# Altium integrated library X Band Filter and LNA.IntLib: 11 symbols
Pins are listed as number, name and electrical type; pins without a type are passive.

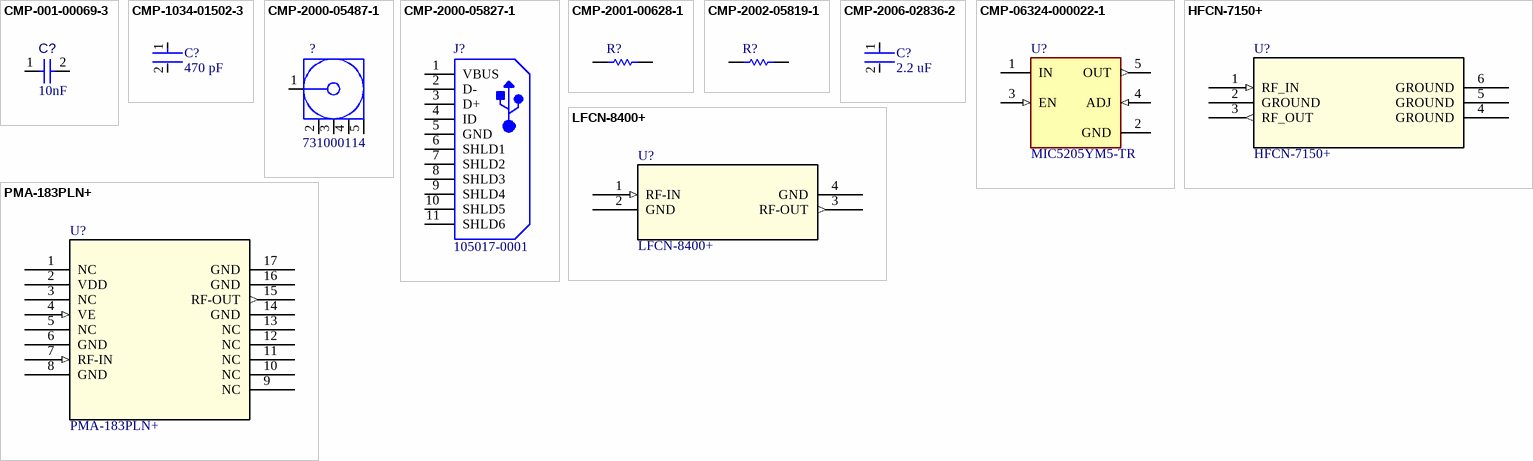
[diagram p0: symbols CMP-001-00069-3 to PMA-183PLN+]

## CMP-001-00069-3
designator C?, comment value 10nF  (hidden comment: Capacitor 10nF +/-20% 50V 0402)
Chip Capacitor, 10nF +/-20%, 50V, 0402, Thickness 0.6 mm; Manufacturer: Vishay Vitramon; Manufacturer Part Number: VJ0402Y103KXACW1BC; Manufacturer: KEMET; Manufacturer Part Number: C0402C103K5RAC-TU; Manufacturer: Vishay Semiconductors; Manufacturer Part Number: VJ0402Y103KXAAC; Manufacturer: Vishay; Manufacturer Part Number: VJ0402Y103KNAAO; Manufacturer Part Number: C0402C103K5RAC; Manufacturer: Yageo; Manufacturer Part Number: CC0402KRX7R9BB103; Manufacturer: TDK; Manufacturer Part Number: C1005X6S1H103K; Manufacturer: Murata; Manufacturer Part Number: GRM155R71H103KA88D; Manufacturer Part Number: C1005X7R1H103K; Tolerance: 5%; Max Operating Temperature: 85°C; Pins: 2; Case/Package: 0402; Voltage Rating: 50V; Min Operating Temperature: -55°C; Mounting Technology: SMT; Component Type: Capacitors
footprint CAPC0402(1005)60_L (Chip Capacitor, Body 1.0x0.5mm, Height 0.6mm, IPC High Density)
simulation model C_Capacitor_Default
pins: 1, 2

## CMP-1034-01502-3
designator C?, comment 470 pF
General Purpose Ceramic Capacitor, 0402, 470pF, 10%, X7R, 15%, 50V; Manufacturer: KEMET; Manufacturer Part Number: C0402C471K5RACTU; Manufacturer: Kyocera AVX; Manufacturer Part Number: 04025C471KAT4A; Manufacturer Part Number: 04025C471KAT2A; Manufacturer: Vishay; Manufacturer Part Number: VJ0402Y471KXACW1BC; Manufacturer: Vishay Vitramon; Manufacturer Part Number: VJ0402Y471KXAPW1BC; Manufacturer: Yageo; Manufacturer Part Number: CC0402KRX7R9BB471; Manufacturer: TDK; Manufacturer Part Number: C1005X7R1H471K; Manufacturer Part Number: C0402C471K5RAC; Manufacturer: Murata; Manufacturer Part Number: GRM155R71H471KA01D; Manufacturer Part Number: VJ0402Y471KXAAC; Manufacturer Part Number: C0402C471K5RACTM; Manufacturer Part Number: C1005X5R1H471K; Manufacturer Part Number: C0402C471K5GAC; Manufacturer Part Number: 04025A471KAT2A; Manufacturer Part Number: VJ0402Y471KXAAP; Manufacturer Part Number: GRM15XR71H471KA86D; Manufacturer Part Number: C0402C471K5GACTU; Series: -; Height: 0.5mm; Termination: SMD/SMT; Packaging: Tape and Reel; Tolerance: 10%; REACH SVHC: No SVHC; Package Quantity: 10000; Case Code (Imperial): 0402; Voltage: 50V; Depth: 0.5mm; Case Code (Metric): 1005; Voltage Rating: 50V; Radiation Hardening: No; Construction: Flat; Mount: Surface Mount; Dielectric: X7R; Min Operating Temperature: -55°C; Width: 0.5mm; Number of Pins: 2; Case/Package: 0402; RoHS Compliant: Yes; Thickness: 0.022inch; Lead Free: Lead Free; Voltage Rating (DC): 50V; Max Operating Temperature: 125°C; Capacitance: 470pF; Length: 1mm; Contact Plating: Tin; Value: 470pF
footprint FP-0402-L_1_0_1-W_0_5_0_1-IPC_A
footprint FP-0402-L_1_0_1-W_0_5_0_1-IPC_B
footprint FP-0402-L_1_0_1-W_0_5_0_1-IPC_C
footprint FP-0402-L_1_0_1-W_0_5_0_1-MFG
simulation model C_Capacitor_Default
pins: 1, 2

## CMP-2000-05487-1
designator , comment ?  731000114
SMA Right-Angle PCB Jack Receptacle, Brass Body, Gold Plated, 50 Ohm, 5-Pin THD, RoHS, Tray; Manufacturer: Molex; Manufacturer Part Number: 73100-0114; Datasheet Version: 09/2016; Package Description: 5-Pin Through Hole Device, Body 14.8 x 6.35 mm, Pitch 2.54 mm; Datasheet URL: http://www.molex.com/webdocs/datasheets/pdf/en-us/0731000114_RF_COAX_CONNECTORS.pdf; Manufacturer URL: http://www.molex.com/; Package Reference: 731000114; Mounting Technology: ThroughHole; Package URL: http://www.molex.com/pdm_docs/sd/731000114_sd.pdf
footprint MOLX-731000114_V (Connector, 5-Leads, Body 14.8x6.35mm, Pitch 2.54mm)
pins: 1, 2, 3, 4, 5

## CMP-2000-05827-1
designator J?, comment 105017-0001
Micro-USB B Receptacle, Right Angle, Bottom Mount, Surface Mount, with Solder Tabs, -30 to 85 degC, 5-Pin USB, RoHS, Tape and Reel; Manufacturer: Molex; Featured Product: Micro-USBConnectorsUSBConnectors; Other Names: WM1399DKR; Package Version: Rev. F, 12/2012; Number of Contacts: 5; Connector Type: USB-microB; Catalog Drawings: 1050170001; 3D Model: 105017-0001.stp; Mating Products: WM17145-ND-CABLEMICROUSBBTOSTDA1.0MWM17147-ND-CABLEMICROUSBBTOSTDA2.0MWM17146-ND-CABLEMICROUSBBTOSTDA1.5M; PCN Assembly/Origin: ResinSupplier21/Oct/2015; Voltage - Max: 30V; Online Catalog: Molex-MicroUSB; Manufacturer URL: http://www.molex.com/; Package Description: 5-Leads USB, Micro B, Body 7.5 x 5 mm, Pitch 0.65 mm; Datasheet URL: http://www.molex.com/elqNow/elqRedir.htm?ref=http://www.molex.com/webdocs/datasheets/pdf/en-us/1050170001_IO_CONNECTORS.pdf; Ingress Protection: -; Datasheet Version: 03/2016; Mounting Type: BoardCutout,SurfaceMount,RightAngle; Circuits: 5; Standard Package: 1; Package Reference: MICRO-B; Package URL: http://www.molex.com/pdm_docs/sd/1050170001_sd.pdf; Category: Connectors,Interconnects; Series: -; RoHS Information: 1050170001CertofCompliance; Features: Shielded,SolderRetention; Family: USB,DVI,HDMIConnectors; Specifications: -; Gender: Receptacle; Packaging: Digi-Reel®; Mounting Technology: SurfaceMount; Manufacturer Part Number: 1050170001
footprint USB-MICRO-B_V (USB, MICRO B, Body 7.491x4.695 mm, Pitch 0.65 mm)
pins: 1 VBUS, 2 D-, 3 D+, 4 ID, 5 GND, 6 SHLD1, 7 SHLD2, 8 SHLD3, 9 SHLD4, 10 SHLD5, 11 SHLD6

## CMP-2001-00628-1
designator R?
Manufacturer: Panasonic; Part Number: ERA6AEB331V; Manufacturer Part Number: ERA-6AEB331V
footprint RESC2013X60X40LL20T25 (Chip Resistor, 2-Leads, Body 2.00x1.25mm, IPC High Density)
footprint RESC2013X60X40ML20T25 (Chip Resistor, 2-Leads, Body 2.00x1.25mm, IPC Low Density)
footprint RESC2013X60X40NL20T25 (Chip Resistor, 2-Leads, Body 2.00x1.25mm, IPC Medium Density)
pins: 1, 2
1 alternate drawing of the same symbol

## CMP-2002-05819-1
designator R?
Part Number: ERA-2AEB621X; Manufacturer: Panasonic; Manufacturer Part Number: ERA-2AEB621X
footprint RESC1005X40X25ML10T10 (Chip Resistor, 2-Leads, Body 1.00x0.50mm, IPC Low Density)
footprint RESC1005X40X25LL10T10 (Chip Resistor, 2-Leads, Body 1.00x0.50mm, IPC High Density)
footprint RESC1005X40X25NL10T10 (Chip Resistor, 2-Leads, Body 1.00x0.50mm, IPC Medium Density)
pins: 1, 2
1 alternate drawing of the same symbol

## CMP-2006-02836-2
designator C?, comment 2.2 uF
Chip Multilayer Ceramic Capacitors for General Purpose, 0603, 2.2uF, X7R, 15%, 10%, 10V; Manufacturer: Murata; Manufacturer Part Number: GRM188R71A225KE15D; Case Code (Metric): 1608; Height: 0.8mm; Packaging: Cut Tape; Voltage: 10V; Lead Free: Lead Free; Min Operating Temperature: -55°C; Voltage Rating (DC): 10V; Max Operating Temperature: 125°C; Voltage Rating: 10V; Dielectric: X7R; Depth: 0.8mm; Case Code (Imperial): 0603; Termination: SMD/SMT; Case/Package: 0603; Number of Pins: 2; REACH SVHC: No SVHC; Mount: Surface Mount; Width: 0.031inch; Material: Ceramic; Capacitance: 2.2uF; Package Quantity: 1; Weight: 7.1E-05oz; Length: 1.6mm; Thickness: 0.035inch; Tolerance: 10%; Value: 2.2uF
footprint FP-GRM188-0_1-e0_2_0_5-MFG
footprint FP-GRM188-0_1-e0_2_0_5-IPC_B
footprint FP-GRM188-0_1-e0_2_0_5-IPC_A
footprint FP-GRM188-0_1-e0_2_0_5-IPC_C
simulation model C_Capacitor_Default
pins: 1, 2

## CMP-06324-000022-1
designator U?, comment MIC5205YM5-TR
IC REG LIN POS ADJ 150MA SOT23-5; Manufacturer: Microchip; Output Type: AdjustableProgrammable; Number Of Outputs: 1; Max Supply Voltage: 16V; Min Supply Voltage: 2.5V; Nominal Supply Current: 80-1300uA; Dropout Voltage: 165mV; Standoff Height: 0mm; Accuracy Percentage: 1%; Max Junction Temp: +125°C; ComponentLink2URL: http://ww1.microchip.com/downloads/en/DeviceDoc/20005785A.pdf; Temperature Range Low: -40°C; Mouser Description: LDO Voltage Regulators 150mA 1% Low Noise LDO (Lead Free); Lead Free: Yes; Device Class L3: Voltage Regulators - Linear; Temperature: -40°C to +125°C; Device Class L1: Integrated Circuits (ICs); Automotive: No; Temperature Range High: +125°C; Manufacturer Part Number: MIC5205YM5-TR; RoHS: TRUE; Device Class L2: Power Management ICs; Output Current: 150mA; Package: SOT23-5LD-PL-1; Digikey Description: IC REG LIN POS ADJ 150MA SOT23-5; ComponentLink2Description: Datasheet; Category: IC; Octopart: https://octopart.com/mic5205ym5-tr-microchip-66802135; Height: 1.45mm
footprint FP-SOT23-5LD-PL-1-MFG
footprint FP-SOT23-5LD-PL-1-IPC_C
footprint FP-SOT23-5LD-PL-1-IPC_B
footprint FP-SOT23-5LD-PL-1-IPC_A
pins: 1 IN (power), 2 GND (power), 3 EN (in), 4 ADJ (in), 5 OUT (out)

## HFCN-7150+
designator U?
No Description Available; Mfr_Name: Mini Circuits; Copyright: Copyright (C) 2024 Ultra Librarian. All rights reserved.; Manufacturer_Part_Number: HFCN-7150+; RefDes: RefDes; Type: DEV
footprint FV1206-1_MNC
pins: 1 RF_IN (in), 2 GROUND (power), 3 RF_OUT (out), 4 GROUND (power), 5 GROUND (power), 6 GROUND (power)

## LFCN-8400+
designator U?
No Description Available; Mfr_Name: Mini Circuits; Copyright: Copyright (C) 2024 Ultra Librarian. All rights reserved.; Manufacturer_Part_Number: LFCN-8400+; RefDes: RefDes; Type: DEV
footprint FV1206-4_MNC
pins: 1 RF-IN (in), 2 GND (power), 3 RF-OUT (out), 4 GND (power)

## PMA-183PLN+
designator U?
No Description Available; Mfr_Name: Mini Circuits; Copyright: Copyright (C) 2024 Ultra Librarian. All rights reserved.; Manufacturer_Part_Number: PMA-183PLN+; RefDes: RefDes; Type: DEV
footprint JV2579_MNC
pins: 1 NC, 2 VDD (power), 3 NC, 4 VE (in), 5 NC, 6 GND (power), 7 RF-IN (in), 8 GND (power), 9 NC, 10 NC, 11 NC, 12 NC, 13 NC, 14 GND (power), 15 RF-OUT (out), 16 GND (power), 17 GND (power)